# EAGLE library part SPH0645LM4H-B (library milliLearn-ice40)
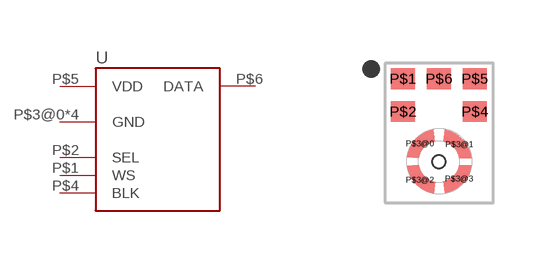
[diagram p10: symbol with the pads of SPH0645LM4H-B; footprint SPH0645LM4H-B]

Designator prefix U

## SPH0645LM4H-B (MFR: KNOWLES; MFR_PN: SPH0645LM4H-B)  [SPH0645LM4H-B]
P$1  WS
P$2  SEL
P$3@0  GND
P$3@1  GND
P$3@2  GND
P$3@3  GND
P$4  BLK
P$5  VDD
P$6  DATA

## Footprint SPH0645LM4H-B (pad centres in mm)
smd 0.6 x 0.522: P$1 -0.9,1.359; P$2 -0.9,0.537; P$4 0.9,0.537; P$5 0.9,1.359; P$6 0,1.359
smd 0.25 x 0.25: P$3@0 -0.48,-0.26; P$3@1 0.51,-0.28; P$3@2 -0.48,-1.17; P$3@3 0.5,-1.14
hole 0.325 at 0,-0.715